# Altium schematic symbol library Conn,Jack,Combo,XLR,6.35mm,Female,Thru.SchLib: 1 symbol
Pins are listed as number, name and electrical type; pins without a type are passive.

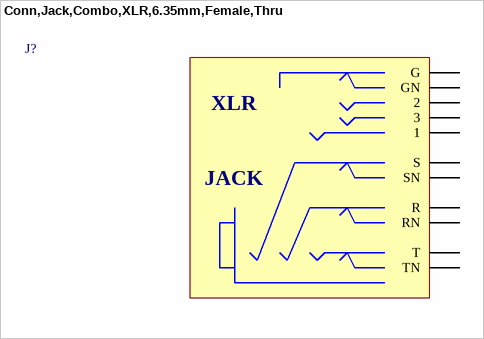
[diagram p0: symbol Conn,Jack,Combo,XLR,6.35mm,Female,Thru]

## Conn,Jack,Combo,XLR,6.35mm,Female,Thru
designator J?
pins: 1, 2, 3, G, GN, R, RN, S, SN, T, TN
text: XLR; JACK